# Altium integrated library Lattice FPGA XP2.IntLib: 160 symbols (part 30 of 35)
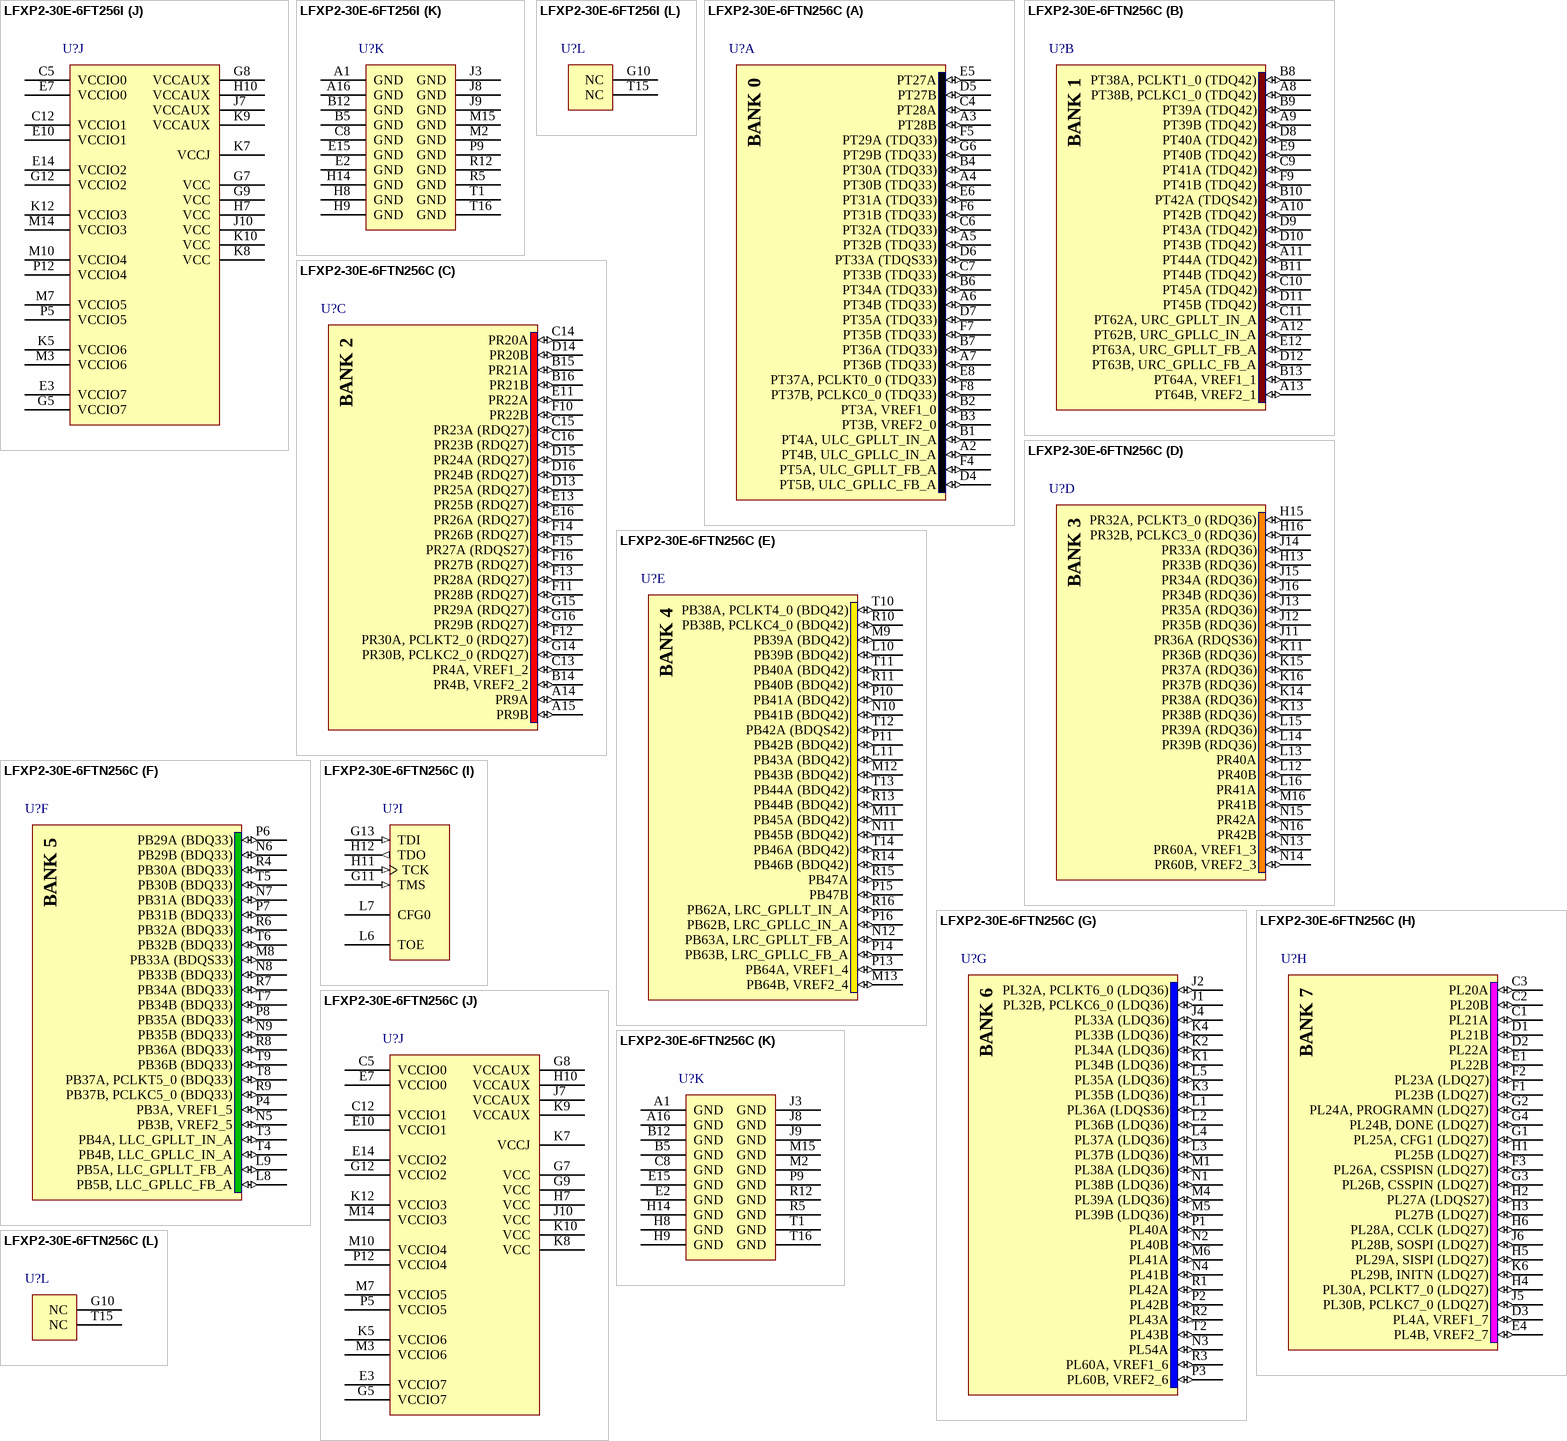
[diagram p290: symbols LFXP2-30E-6FT256I to LFXP2-30E-6FTN256C]

## LFXP2-30E-6FTN256C
designator U?
XP2, 1.2V FPGA, 201 I/Os, 29K LUTs, 256-Pin ftBGA, Speed Grade 6, Commercial Grade, Pb-Free; DatasheetVersion: ver01.8, Jun-2008; PackageVersion: ver02.8, Jul-2011; PackageReference: ftBGA256; PackageDescription: 256-Ball Fine Thin Ball Grid Array (ftBGA256); ComponentLink1Description: Manufacturer URL; ComponentLink1URL: http://www.latticesemi.com/; ComponentLink2Description: Datasheet; ComponentLink2URL: http://www.latticesemi.com/documents/DS1009.pdf; ComponentLink3Description: Package Specification; ComponentLink3URL: http://www.latticesemi.com/lit/docs/package/pkg.pdf
footprint ftBGA256 (BGA, 256-Leads, Body 17x17mm, Pitch 1mm)
part A pins: A2 PT4B, ULC_GPLLC_IN_A (io), A3 PT28B (io), A4 PT30B (TDQ33) (io), A5 PT32B (TDQ33) (io), A6 PT34B (TDQ33) (io), A7 PT36B (TDQ33) (io), B1 PT4A, ULC_GPLLT_IN_A (io), B2 PT3A, VREF1_0 (io), B3 PT3B, VREF2_0 (io), B4 PT30A (TDQ33) (io), B6 PT34A (TDQ33) (io), B7 PT36A (TDQ33) (io), C4 PT28A (io), C6 PT32A (TDQ33) (io), C7 PT33B (TDQ33) (io), D4 PT5B, ULC_GPLLC_FB_A (io), D5 PT27B (io), D6 PT33A (TDQS33) (io), D7 PT35A (TDQ33) (io), E5 PT27A (io), E6 PT31A (TDQ33) (io), E8 PT37A, PCLKT0_0 (TDQ33) (io), F4 PT5A, ULC_GPLLT_FB_A (io), F5 PT29A (TDQ33) (io), F6 PT31B (TDQ33) (io), F7 PT35B (TDQ33) (io), F8 PT37B, PCLKC0_0 (TDQ33) (io), G6 PT29B (TDQ33) (io)
part B pins: A8 PT38B, PCLKC1_0 (TDQ42) (io), A9 PT39B (TDQ42) (io), A10 PT42B (TDQ42) (io), A11 PT44A (TDQ42) (io), A12 PT62B, URC_GPLLC_IN_A (io), A13 PT64B, VREF2_1 (io), B8 PT38A, PCLKT1_0 (TDQ42) (io), B9 PT39A (TDQ42) (io), B10 PT42A (TDQS42) (io), B11 PT44B (TDQ42) (io), B13 PT64A, VREF1_1 (io), C9 PT41A (TDQ42) (io), C10 PT45A (TDQ42) (io), C11 PT62A, URC_GPLLT_IN_A (io), D8 PT40A (TDQ42) (io), D9 PT43A (TDQ42) (io), D10 PT43B (TDQ42) (io), D11 PT45B (TDQ42) (io), D12 PT63B, URC_GPLLC_FB_A (io), E9 PT40B (TDQ42) (io), E12 PT63A, URC_GPLLT_FB_A (io), F9 PT41B (TDQ42) (io)
part C pins: A14 PR9A (io), A15 PR9B (io), B14 PR4B, VREF2_2 (io), B15 PR21A (io), B16 PR21B (io), C13 PR4A, VREF1_2 (io), C14 PR20A (io), C15 PR23A (RDQ27) (io), C16 PR23B (RDQ27) (io), D13 PR25A (RDQ27) (io), D14 PR20B (io), D15 PR24A (RDQ27) (io), D16 PR24B (RDQ27) (io), E11 PR22A (io), E13 PR25B (RDQ27) (io), E16 PR26A (RDQ27) (io), F10 PR22B (io), F11 PR28B (RDQ27) (io), F12 PR30A, PCLKT2_0 (RDQ27) (io), F13 PR28A (RDQ27) (io), F14 PR26B (RDQ27) (io), F15 PR27A (RDQS27) (io), F16 PR27B (RDQ27) (io), G14 PR30B, PCLKC2_0 (RDQ27) (io), G15 PR29A (RDQ27) (io), G16 PR29B (RDQ27) (io)
part D pins: H13 PR33B (RDQ36) (io), H15 PR32A, PCLKT3_0 (RDQ36) (io), H16 PR32B, PCLKC3_0 (RDQ36) (io), J11 PR36A (RDQS36) (io), J12 PR35B (RDQ36) (io), J13 PR35A (RDQ36) (io), J14 PR33A (RDQ36) (io), J15 PR34A (RDQ36) (io), J16 PR34B (RDQ36) (io), K11 PR36B (RDQ36) (io), K13 PR38B (RDQ36) (io), K14 PR38A (RDQ36) (io), K15 PR37A (RDQ36) (io), K16 PR37B (RDQ36) (io), L12 PR40B (io), L13 PR40A (io), L14 PR39B (RDQ36) (io), L15 PR39A (RDQ36) (io), L16 PR41A (io), M16 PR41B (io), N13 PR60A, VREF1_3 (io), N14 PR60B, VREF2_3 (io), N15 PR42A (io), N16 PR42B (io)
part E pins: L10 PB39B (BDQ42) (io), L11 PB43A (BDQ42) (io), M9 PB39A (BDQ42) (io), M11 PB45A (BDQ42) (io), M12 PB43B (BDQ42) (io), M13 PB64B, VREF2_4 (io), N10 PB41B (BDQ42) (io), N11 PB45B (BDQ42) (io), N12 PB63A, LRC_GPLLT_FB_A (io), P10 PB41A (BDQ42) (io), P11 PB42B (BDQ42) (io), P13 PB64A, VREF1_4 (io), P14 PB63B, LRC_GPLLC_FB_A (io), P15 PB47B (io), P16 PB62B, LRC_GPLLC_IN_A (io), R10 PB38B, PCLKC4_0 (BDQ42) (io), R11 PB40B (BDQ42) (io), R13 PB44B (BDQ42) (io), R14 PB46B (BDQ42) (io), R15 PB47A (io), R16 PB62A, LRC_GPLLT_IN_A (io), T10 PB38A, PCLKT4_0 (BDQ42) (io), T11 PB40A (BDQ42) (io), T12 PB42A (BDQS42) (io), T13 PB44A (BDQ42) (io), T14 PB46A (BDQ42) (io)
part F pins: L8 PB5B, LLC_GPLLC_FB_A (io), L9 PB5A, LLC_GPLLT_FB_A (io), M8 PB33A (BDQS33) (io), N5 PB3B, VREF2_5 (io), N6 PB29B (BDQ33) (io), N7 PB31A (BDQ33) (io), N8 PB33B (BDQ33) (io), N9 PB35B (BDQ33) (io), P4 PB3A, VREF1_5 (io), P6 PB29A (BDQ33) (io), P7 PB31B (BDQ33) (io), P8 PB35A (BDQ33) (io), R4 PB30A (BDQ33) (io), R6 PB32A (BDQ33) (io), R7 PB34A (BDQ33) (io), R8 PB36A (BDQ33) (io), R9 PB37B, PCLKC5_0 (BDQ33) (io), T3 PB4A, LLC_GPLLT_IN_A (io), T4 PB4B, LLC_GPLLC_IN_A (io), T5 PB30B (BDQ33) (io), T6 PB32B (BDQ33) (io), T7 PB34B (BDQ33) (io), T8 PB37A, PCLKT5_0 (BDQ33) (io), T9 PB36B (BDQ33) (io)
part G pins: J1 PL32B, PCLKC6_0 (LDQ36) (io), J2 PL32A, PCLKT6_0 (LDQ36) (io), J4 PL33A (LDQ36) (io), K1 PL34B (LDQ36) (io), K2 PL34A (LDQ36) (io), K3 PL35B (LDQ36) (io), K4 PL33B (LDQ36) (io), L1 PL36A (LDQS36) (io), L2 PL36B (LDQ36) (io), L3 PL37B (LDQ36) (io), L4 PL37A (LDQ36) (io), L5 PL35A (LDQ36) (io), M1 PL38A (LDQ36) (io), M4 PL39A (LDQ36) (io), M5 PL39B (LDQ36) (io), M6 PL41A (io), N1 PL38B (LDQ36) (io), N2 PL40B (io), N3 PL54A (io), N4 PL41B (io), P1 PL40A (io), P2 PL42B (io), P3 PL60B, VREF2_6 (io), R1 PL42A (io), R2 PL43A (io), R3 PL60A, VREF1_6 (io), T2 PL43B (io)
part H pins: C1 PL21A (io), C2 PL20B (io), C3 PL20A (io), D1 PL21B (io), D2 PL22A (io), D3 PL4A, VREF1_7 (io), E1 PL22B (io), E4 PL4B, VREF2_7 (io), F1 PL23B (LDQ27) (io), F2 PL23A (LDQ27) (io), F3 PL26A, CSSPISN (LDQ27) (io), G1 PL25A, CFG1 (LDQ27) (io), G2 PL24A, PROGRAMN (LDQ27) (io), G3 PL26B, CSSPIN (LDQ27) (io), G4 PL24B, DONE (LDQ27) (io), H1 PL25B (LDQ27) (io), H2 PL27A (LDQS27) (io), H3 PL27B (LDQ27) (io), H4 PL30A, PCLKT7_0 (LDQ27) (io), H5 PL29A, SISPI (LDQ27) (io), H6 PL28A, CCLK (LDQ27) (io), J5 PL30B, PCLKC7_0 (LDQ27) (io), J6 PL28B, SOSPI (LDQ27) (io), K6 PL29B, INITN (LDQ27) (io)
part I pins: G11 TMS (in), G13 TDI (in), H11 TCK (in), H12 TDO (out), L6 TOE, L7 CFG0
part J pins: C5 VCCIO0 (power), C12 VCCIO1 (power), E3 VCCIO7 (power), E7 VCCIO0 (power), E10 VCCIO1 (power), E14 VCCIO2 (power), G5 VCCIO7 (power), G7 VCC (power), G8 VCCAUX (power), G9 VCC (power), G12 VCCIO2 (power), H7 VCC (power), H10 VCCAUX (power), J7 VCCAUX (power), J10 VCC (power), K5 VCCIO6 (power), K7 VCCJ (power), K8 VCC (power), K9 VCCAUX (power), K10 VCC (power), K12 VCCIO3 (power), M3 VCCIO6 (power), M7 VCCIO5 (power), M10 VCCIO4 (power), M14 VCCIO3 (power), P5 VCCIO5 (power), P12 VCCIO4 (power)
part K pins: A1 GND (power), A16 GND (power), B5 GND (power), B12 GND (power), C8 GND (power), E2 GND (power), E15 GND (power), H8 GND (power), H9 GND (power), H14 GND (power), J3 GND (power), J8 GND (power), J9 GND (power), M2 GND (power), M15 GND (power), P9 GND (power), R5 GND (power), R12 GND (power), T1 GND (power), T16 GND (power)
part L pins: G10 NC, T15 NC
part A text: BANK 0
part B text: BANK 1
part C text: BANK 2
part D text: BANK 3
part E text: BANK 4
part F text: BANK 5
part G text: BANK 6
part H text: BANK 7

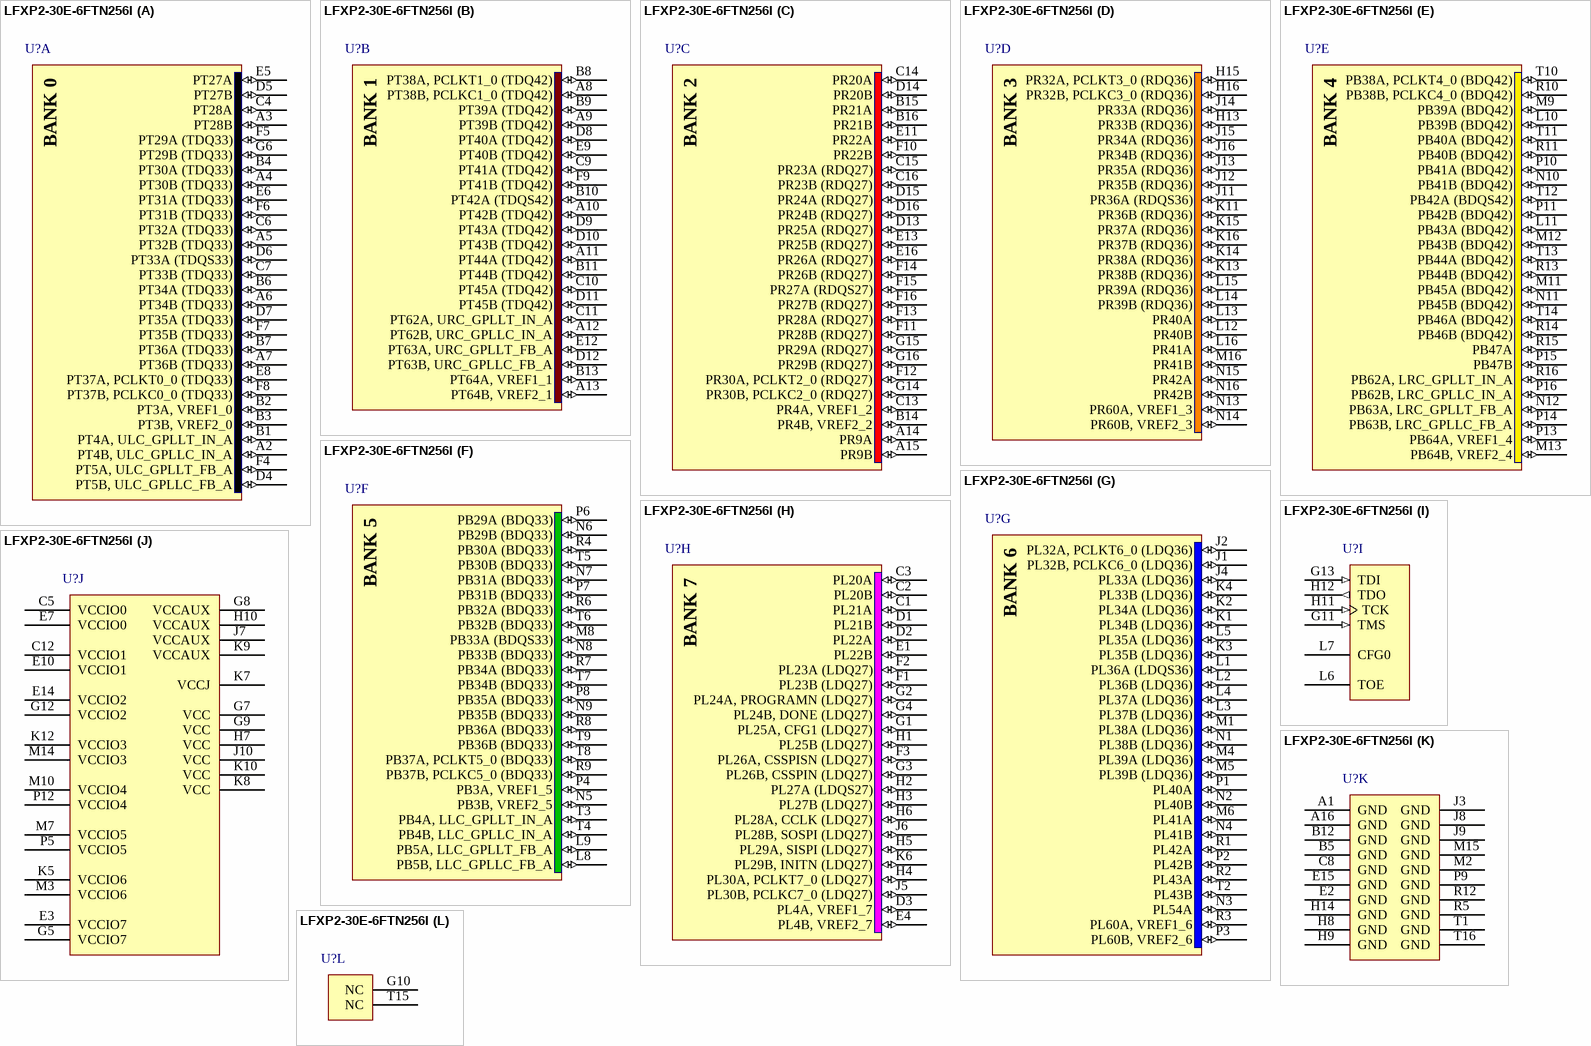
[diagram p127: symbol LFXP2-30E-6FTN256I]